# Altium schematic symbol library SCH - POWER - LINEAR VREG - TI TPS7A8500ARGR.SchLib: 1 symbol
Pins are listed as number, name and electrical type; pins without a type are passive.

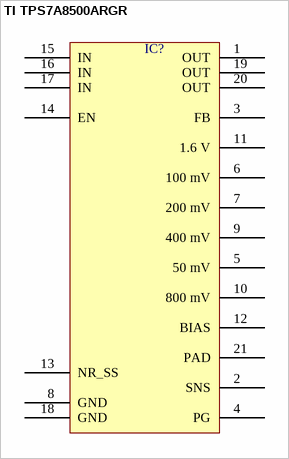
[diagram p0: symbol TI TPS7A8500ARGR]

## TI TPS7A8500ARGR
designator IC?  (value not drawn)
pins: 1 OUT, 2 SNS, 3 FB, 4 PG, 5 50 mV, 6 100 mV, 7 200 mV, 8 GND, 9 400 mV, 10 800 mV, 11 1.6 V, 12 BIAS, 13 NR_SS, 14 EN, 15 IN, 16 IN, 17 IN, 18 GND, 19 OUT, 20 OUT, 21 PAD